# Altium schematic symbol library Chips.SchLib: 29 symbols
Pins are listed as number, name and electrical type; pins without a type are passive.

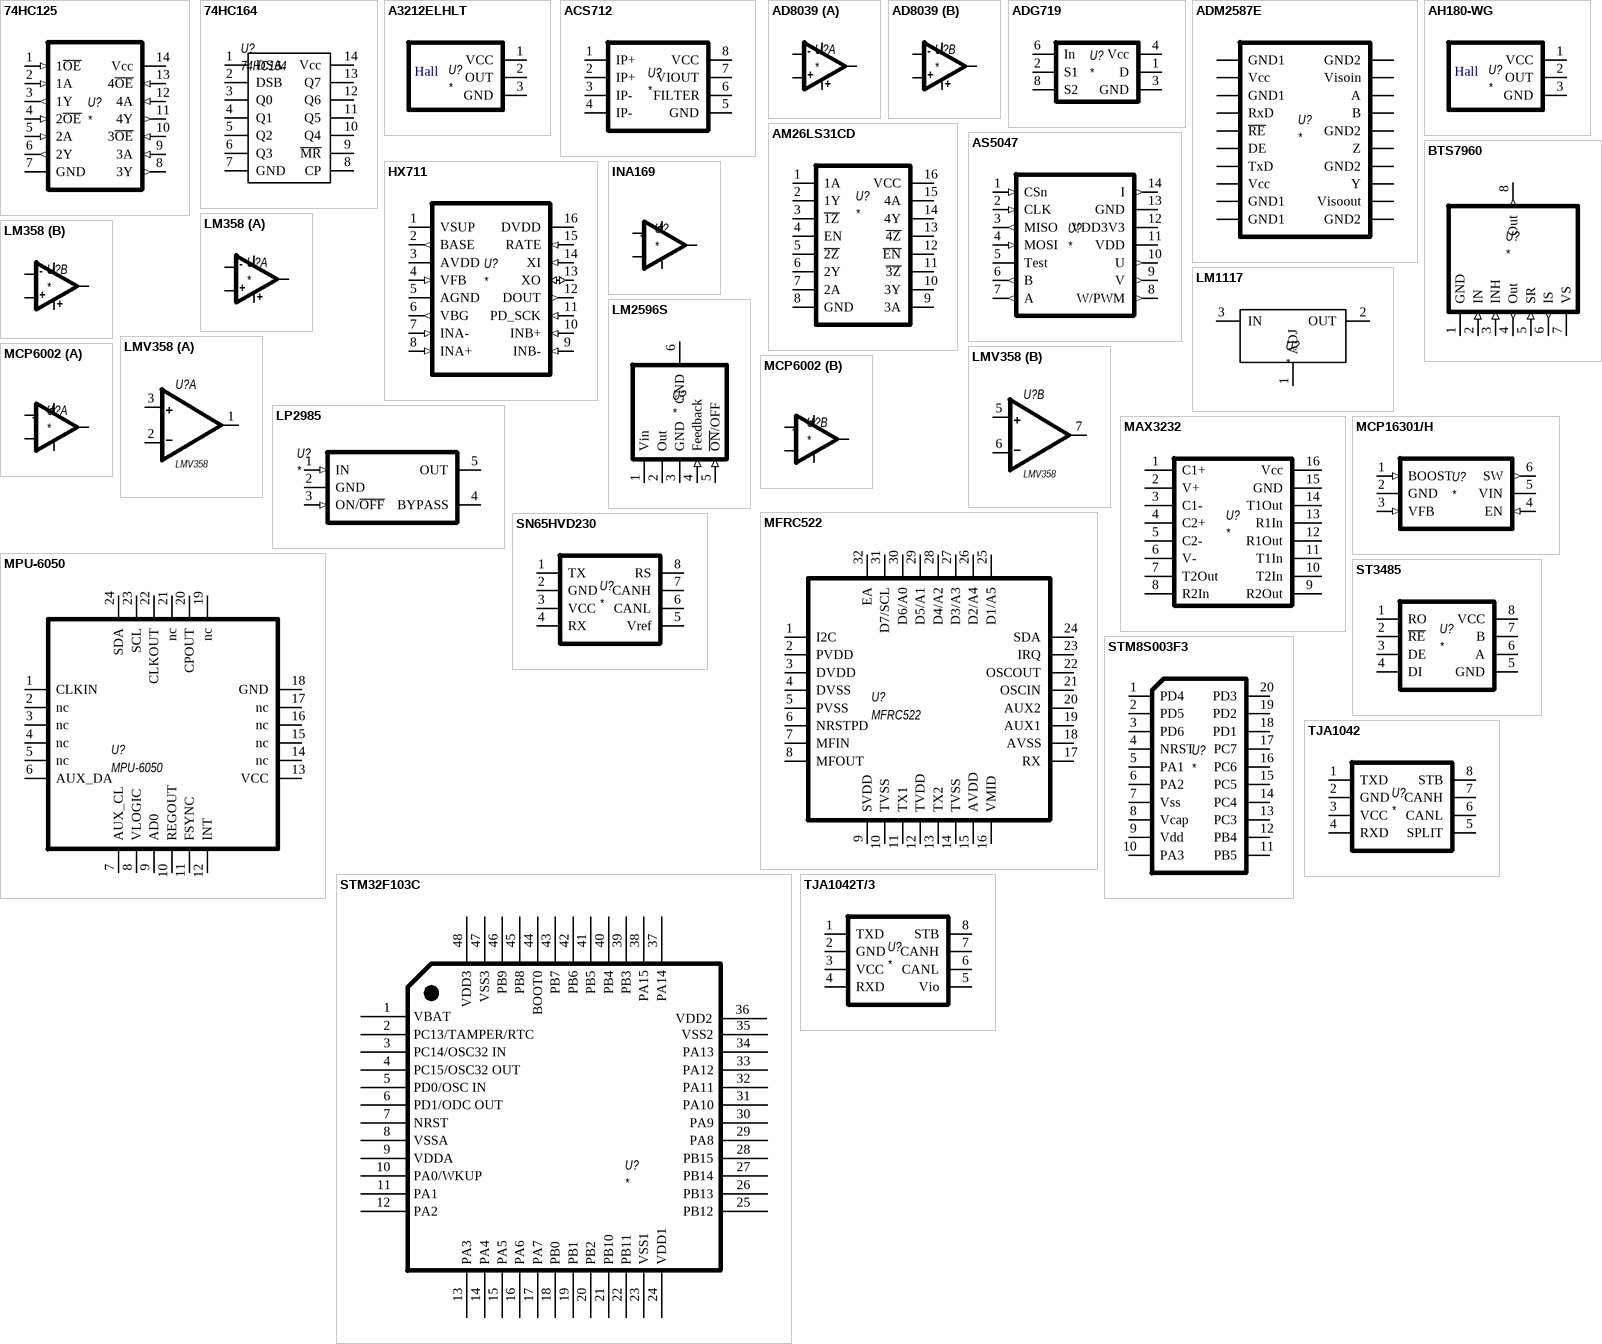
[diagram p0: symbols 74HC125 to TJA1042T/3]

## 74HC125
designator U?
footprint TSSOP14
footprint SOIC14
pins: 1 1~{OE} (in), 2 1A (in), 3 1Y (out), 4 2~{OE} (in), 5 2A (in), 6 2Y (out), 7 GND (power), 8 3Y (out), 9 3A (in), 10 3~{OE} (in), 11 4Y (out), 12 4A (in), 13 4~{OE} (in), 14 Vcc (power)

## 74HC164
designator U?
footprint SOIC14
pins: 1 DSA, 2 DSB, 3 Q0, 4 Q1, 5 Q2, 6 Q3, 7 GND, 8 CP, 9 ~{MR}, 10 Q4, 11 Q5, 12 Q6, 13 Q7, 14 Vcc

## A3212ELHLT
designator U?
footprint SOT23 (SOT23, 3-Leads, Body 2.90x2.30mm, Pitch 0.95mm, IPC Medium Density)
pins: 1 VCC, 2 OUT, 3 GND
text: Hall

## ACS712
designator U?
footprint SOIC8 (SOIC, 8-Leads, Body 4.9x3.9mm, Pitch 1.27mm, IPC Medium Density)
pins: 1 IP+, 2 IP+, 3 IP-, 4 IP-, 5 GND, 6 FILTER, 7 VIOUT, 8 VCC

## AD8039
designator U?
footprint SOIC8 (SOIC, 8-Leads, Body 4.9x3.9mm, Pitch 1.27mm, IPC Medium Density)
part A pins: 1 VOut1, 2 -In1, 3 +In1, 4 -Vs, 8 +Vs
part B pins: 4 -Vs, 5 +In2, 6 -In2, 7 VOut2, 8 +Vs
part A text: -; +
part B text: -; +

## ADG719
designator U?
footprint TSSOP8 (TSOP, 8-Leads, Body 3.00x3.00mm, Pitch 0.65mm, IPC Medium Density)
pins: 1 D, 2 S1, 3 GND, 4 Vcc, 6 In, 8 S2

## ADM2587E
designator U?
footprint SOIC20-W
pins: 1 GND1, 2 Vcc, 3 GND1, 4 RxD, 5 ~{RE}, 6 DE, 7 TxD, 8 Vcc, 9 GND1, 10 GND1, 11 GND2, 12 Visoout, 13 Y, 14 GND2, 15 Z, 16 GND2, 17 B, 18 A, 19 Visoin, 20 GND2

## AH180-WG
designator U?
footprint SOT23 (SOT23, 3-Leads, Body 2.90x2.30mm, Pitch 0.95mm, IPC Medium Density)
pins: 1 VCC, 2 OUT, 3 GND
text: Hall

## AM26LS31CD
designator U?
footprint SOIC16 (SOIC, 16-Leads, Body 9.90x3.90mm, Pitch 1.27mm, IPC Medium Density)
pins: 1 1A, 2 1Y, 3 ~{1Z}, 4 EN, 5 ~{2Z}, 6 2Y, 7 2A, 8 GND, 9 3A, 10 3Y, 11 ~{3Z}, 12 ~{EN}, 13 ~{4Z}, 14 4Y, 15 4A, 16 VCC

## AS5047
designator U?
footprint TSSOP14
pins: 1 CSn (in), 2 CLK (in), 3 MISO (out), 4 MOSI (in), 5 Test, 6 B (out), 7 A (out), 8 W/PWM (out), 9 V (out), 10 U (out), 11 VDD (power), 12 VDD3V3 (power), 13 GND (power), 14 I (out)

## BTS7960
designator U?
footprint TO263-7
pins: 1 GND (power), 2 IN (in), 3 INH (in), 4 Out (out), 5 SR (in), 6 IS (out), 7 VS (power), 8 Out (out)

## HX711
designator U?
footprint QFN-24
pins: 1 VSUP (power), 2 BASE (out), 3 AVDD (power), 4 VFB (in), 5 AGND (power), 6 VBG (out), 7 INA- (in), 8 INA+ (in), 9 INB- (in), 10 INB+ (in), 11 PD_SCK (in), 12 DOUT (out), 13 XO (io), 14 XI (in), 15 RATE (in), 16 DVDD (power)

## INA169
designator U?
footprint SOT23-5
pins: 1 VOut1, 2 -Vs, 3 +In1, 4 -In1, 5 +Vs
text: +; -

## LM358
designator U?
footprint SOIC8 (SOIC, 8-Leads, Body 4.9x3.9mm, Pitch 1.27mm, IPC Medium Density)
part A pins: 1 VOut1, 2 -In1, 3 +In1, 4 -Vs, 8 +Vs
part B pins: 4 -Vs, 5 +In2, 6 -In2, 7 VOut2, 8 +Vs
part A text: -; +
part B text: -; +

## LM1117
designator U?
footprint SOT223
pins: 1 ADJ (power), 2 OUT (power), 3 IN (power), 4 OUT (power) hidden to 2

## LM2596S
designator U?
footprint TO263-5
pins: 1 Vin (power), 2 Out (power), 3 GND (power), 4 Feedback (in), 5 ~{ON}/OFF (in), 6 GND (power)

## LMV358
designator U?
Low cost, low power, input/output rail-to-rail operational amplifiers. 6V, 1MHz 0.35V/us 145uA
footprint SO8-150
pins on every part: 4 V- (power) hidden to V-, 8 V+ (power) hidden to V+
part A pins: 1 OUT, 2 -IN, 3 +IN
part B pins: 5 +IN, 6 -IN, 7 OUT

## LP2985
designator U?
footprint SOT23-5
pins: 1 IN (in), 2 GND (power), 3 ON/~{OFF} (in), 4 BYPASS (power), 5 OUT (power)

## MAX3232
designator U?
footprint SOIC16 (SOIC, 16-Leads, Body 9.90x3.90mm, Pitch 1.27mm, IPC Medium Density)
pins: 1 C1+, 2 V+, 3 C1-, 4 C2+, 5 C2-, 6 V-, 7 T2Out, 8 R2In, 9 R2Out, 10 T2In, 11 T1In, 12 R1Out, 13 R1In, 14 T1Out, 15 GND, 16 Vcc

## MCP6002
designator U?
footprint SOIC8 (SOIC, 8-Leads, Body 4.9x3.9mm, Pitch 1.27mm, IPC Medium Density)
part A pins: 1 VOut1, 2 -In1, 3 +In1, 4 -Vs, 8 +Vs
part B pins: 4 -Vs, 5 +In2, 6 -In2, 7 VOut2, 8 +Vs
part A text: +; -
part B text: +; -

## MCP16301/H
designator U?
footprint SOT23-6
pins: 1 BOOST (in), 2 GND (power), 3 VFB (in), 4 EN (in), 5 VIN (power), 6 SW (out)

## MFRC522
designator U?
footprint QFN-24
pins: 1 I2C, 2 PVDD, 3 DVDD, 4 DVSS, 5 PVSS, 6 NRSTPD, 7 MFIN, 8 MFOUT, 9 SVDD, 10 TVSS, 11 TX1, 12 TVDD, 13 TX2, 14 TVSS, 15 AVDD, 16 VMID, 17 RX, 18 AVSS, 19 AUX1, 20 AUX2, 21 OSCIN, 22 OSCOUT, 23 IRQ, 24 SDA, 25 D1/A5, 26 D2/A4, 27 D3/A3, 28 D4/A2, 29 D5/A1, 30 D6/A0, 31 D7/SCL, 32 EA

## MPU-6050
designator U?
footprint QFN-24
pins: 1 CLKIN, 2 nc, 3 nc, 4 nc, 5 nc, 6 AUX_DA, 7 AUX_CL, 8 VLOGIC, 9 AD0, 10 REGOUT, 11 FSYNC, 12 INT, 13 VCC, 14 nc, 15 nc, 16 nc, 17 nc, 18 GND, 19 nc, 20 CPOUT, 21 nc, 22 CLKOUT, 23 SCL, 24 SDA

## SN65HVD230
designator U?
footprint SOIC8 (SOIC, 8-Leads, Body 4.9x3.9mm, Pitch 1.27mm, IPC Medium Density)
pins: 1 TX, 2 GND, 3 VCC, 4 RX, 5 Vref, 6 CANL, 7 CANH, 8 RS

## ST3485
designator U?
footprint SOIC8 (SOIC, 8-Leads, Body 4.9x3.9mm, Pitch 1.27mm, IPC Medium Density)
pins: 1 RO, 2 ~{RE}, 3 DE, 4 DI, 5 GND, 6 A, 7 B, 8 VCC

## STM8S003F3
designator U?
footprint TSSOP20 (TSSOP, 20-Leads, Body 6.6x4.5mm (max), Pitch 0.65mm, IPC Medium Density)
footprint TSSOP20_S (TSSOP, 20-Leads, Body 6.6x4.5mm (max), Pitch 0.65mm, IPC Medium Density)
pins: 1 PD4, 2 PD5, 3 PD6, 4 NRST, 5 PA1, 6 PA2, 7 Vss, 8 Vcap, 9 Vdd, 10 PA3, 11 PB5, 12 PB4, 13 PC3, 14 PC4, 15 PC5, 16 PC6, 17 PC7, 18 PD1, 19 PD2, 20 PD3

## STM32F103C
designator U?
footprint LQFP48 (LQFP, 48-Leads, Body 9.2x9.2mm (max), Pitch 0.50mm)
pins: 1 VBAT (power), 2 PC13/TAMPER/RTC, 3 PC14/OSC32 IN, 4 PC15/OSC32 OUT, 5 PD0/OSC IN, 6 PD1/ODC OUT, 7 NRST, 8 VSSA (power), 9 VDDA (power), 10 PA0/WKUP, 11 PA1, 12 PA2, 13 PA3, 14 PA4, 15 PA5, 16 PA6, 17 PA7, 18 PB0, 19 PB1, 20 PB2, 21 PB10, 22 PB11, 23 VSS1 (power), 24 VDD1 (power), 25 PB12, 26 PB13, 27 PB14, 28 PB15, 29 PA8, 30 PA9, 31 PA10, 32 PA11, 33 PA12, 34 PA13, 35 VSS2 (power), 36 VDD2 (power), 37 PA14, 38 PA15, 39 PB3, 40 PB4, 41 PB5, 42 PB6, 43 PB7, 44 BOOT0, 45 PB8, 46 PB9, 47 VSS3 (power), 48 VDD3 (power)

## TJA1042
designator U?
footprint SOIC8 (SOIC, 8-Leads, Body 4.9x3.9mm, Pitch 1.27mm, IPC Medium Density)
pins: 1 TXD, 2 GND, 3 VCC, 4 RXD, 5 SPLIT, 6 CANL, 7 CANH, 8 STB

## TJA1042T/3
designator U?
footprint SOIC8 (SOIC, 8-Leads, Body 4.9x3.9mm, Pitch 1.27mm, IPC Medium Density)
pins: 1 TXD, 2 GND, 3 VCC, 4 RXD, 5 Vio, 6 CANL, 7 CANH, 8 STB